# EAGLE library part AT86RF211 (library paparazzi3)
FSK Transceiver for ISM radio applications
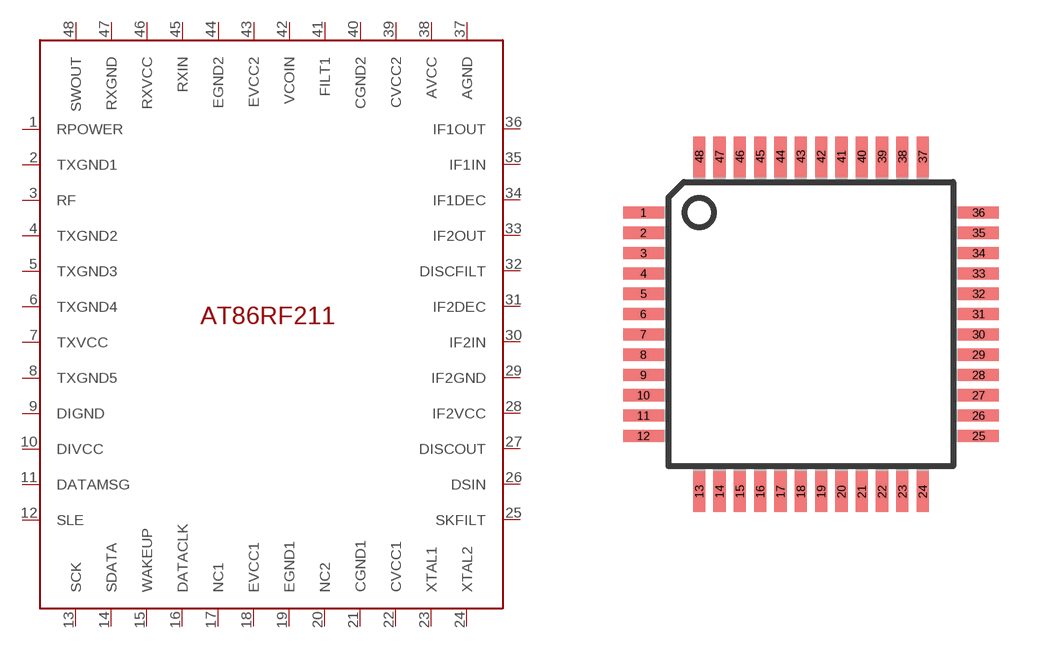
[diagram p0: symbol with the pads of TQFP48; footprint TQFP48]

Designator prefix -

## AT86RF211  [TQFP48]
1  RPOWER
2  TXGND1
3  RF
4  TXGND2
5  TXGND3
6  TXGND4
7  TXVCC
8  TXGND5
9  DIGND
10  DIVCC
11  DATAMSG
12  SLE
13  SCK
14  SDATA
15  WAKEUP
16  DATACLK
17  NC1
18  EVCC1
19  EGND1
20  NC2
21  CGND1
22  CVCC1
23  XTAL1
24  XTAL2
25  SKFILT
26  DSIN
27  DISCOUT
28  IF2VCC
29  IF2GND
30  IF2IN
31  IF2DEC
32  DISCFILT
33  IF2OUT
34  IF1DEC
35  IF1IN
36  IF1OUT
37  AGND
38  AVCC
39  CVCC2
40  CGND2
41  FILT1
42  VCOIN
43  EVCC2
44  EGND2
45  RXIN
46  RXVCC
47  RXGND
48  SWOUT

## Footprint TQFP48 (pad centres in mm)
Thin Plasic Quad Flat Package
smd 1.016 x 0.305: 1 -4.191,2.794; 2 -4.191,2.286; 3 -4.191,1.778; 4 -4.191,1.27; 5 -4.191,0.762; 6 -4.191,0.254; 7 -4.191,-0.254; 8 -4.191,-0.762; 9 -4.191,-1.27; 10 -4.191,-1.778; 11 -4.191,-2.286; 12 -4.191,-2.794; 25 4.191,-2.794; 26 4.191,-2.286; 27 4.191,-1.778; 28 4.191,-1.27; 29 4.191,-0.762; 30 4.191,-0.254; 31 4.191,0.254; 32 4.191,0.762; 33 4.191,1.27; 34 4.191,1.778; 35 4.191,2.286; 36 4.191,2.794
smd 0.305 x 1.016: 13 -2.794,-4.191; 14 -2.286,-4.191; 15 -1.778,-4.191; 16 -1.27,-4.191; 17 -0.762,-4.191; 18 -0.254,-4.191; 19 0.254,-4.191; 20 0.762,-4.191; 21 1.27,-4.191; 22 1.778,-4.191; 23 2.286,-4.191; 24 2.794,-4.191; 37 2.794,4.191; 38 2.286,4.191; 39 1.778,4.191; 40 1.27,4.191; 41 0.762,4.191; 42 0.254,4.191; 43 -0.254,4.191; 44 -0.762,4.191; 45 -1.27,4.191; 46 -1.778,4.191; 47 -2.286,4.191; 48 -2.794,4.191